# EAGLE library part LTV-827S (library RectifierParts)
Transistor Output Optocouplers Optocplr Phototrans 2-CHNL Source: Datasheet <https://www.mouser.mx/datasheet/2/239/LTV-8X7_series_201610_-1544776.pdf>
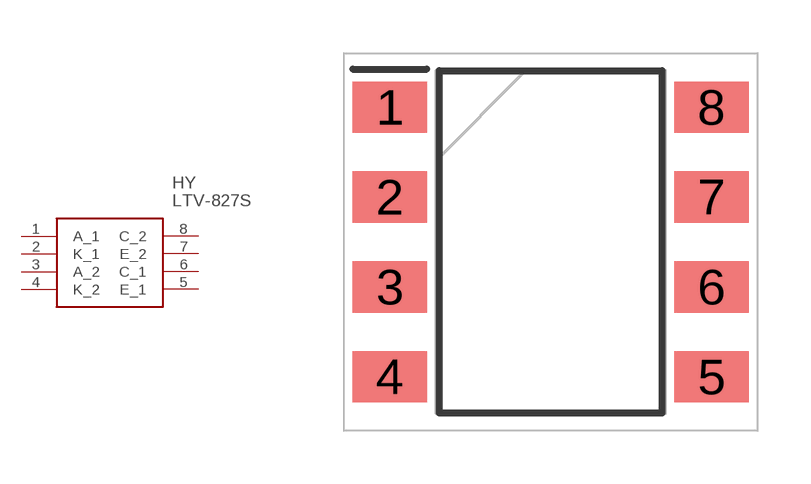
[diagram p0: symbol with the pads of SOP254P1016X460-8N; footprint SOP254P1016X460-8N]

Designator prefix HY

## LTV-827S (DESCRIPTION: Transistor Output Optocouplers Optocplr Phototrans 2-CHNL; HEIGHT: 4.6mm; MANUFACTURER_NAME: Lite-On; MANUFACTURER_PART_NUMBER: LTV-827S; MOUSER_PART_NUMBER: 859-LTV-827S; MOUSER_PRICE-STOCK: https://www.mouser.co.uk/ProductDetail/Lite-On/LTV-827S?qs=5m%252ByTwlvhMUJgq90MY9meQ%3D%3D)  [SOP254P1016X460-8N]
1  A_1
2  K_1
3  A_2
4  K_2
5  E_1
6  C_1
7  E_2
8  C_2

## Footprint SOP254P1016X460-8N (pad centres in mm)
8-SMD
smd 2.1 x 1.45: 1 -4.55,3.81; 2 -4.55,1.27; 3 -4.55,-1.27; 4 -4.55,-3.81; 5 4.55,-3.81; 6 4.55,-1.27; 7 4.55,1.27; 8 4.55,3.81